# Altium schematic symbol library ECSlib.SchLib: 42 symbols
Pins are listed as number, name and electrical type; pins without a type are passive.

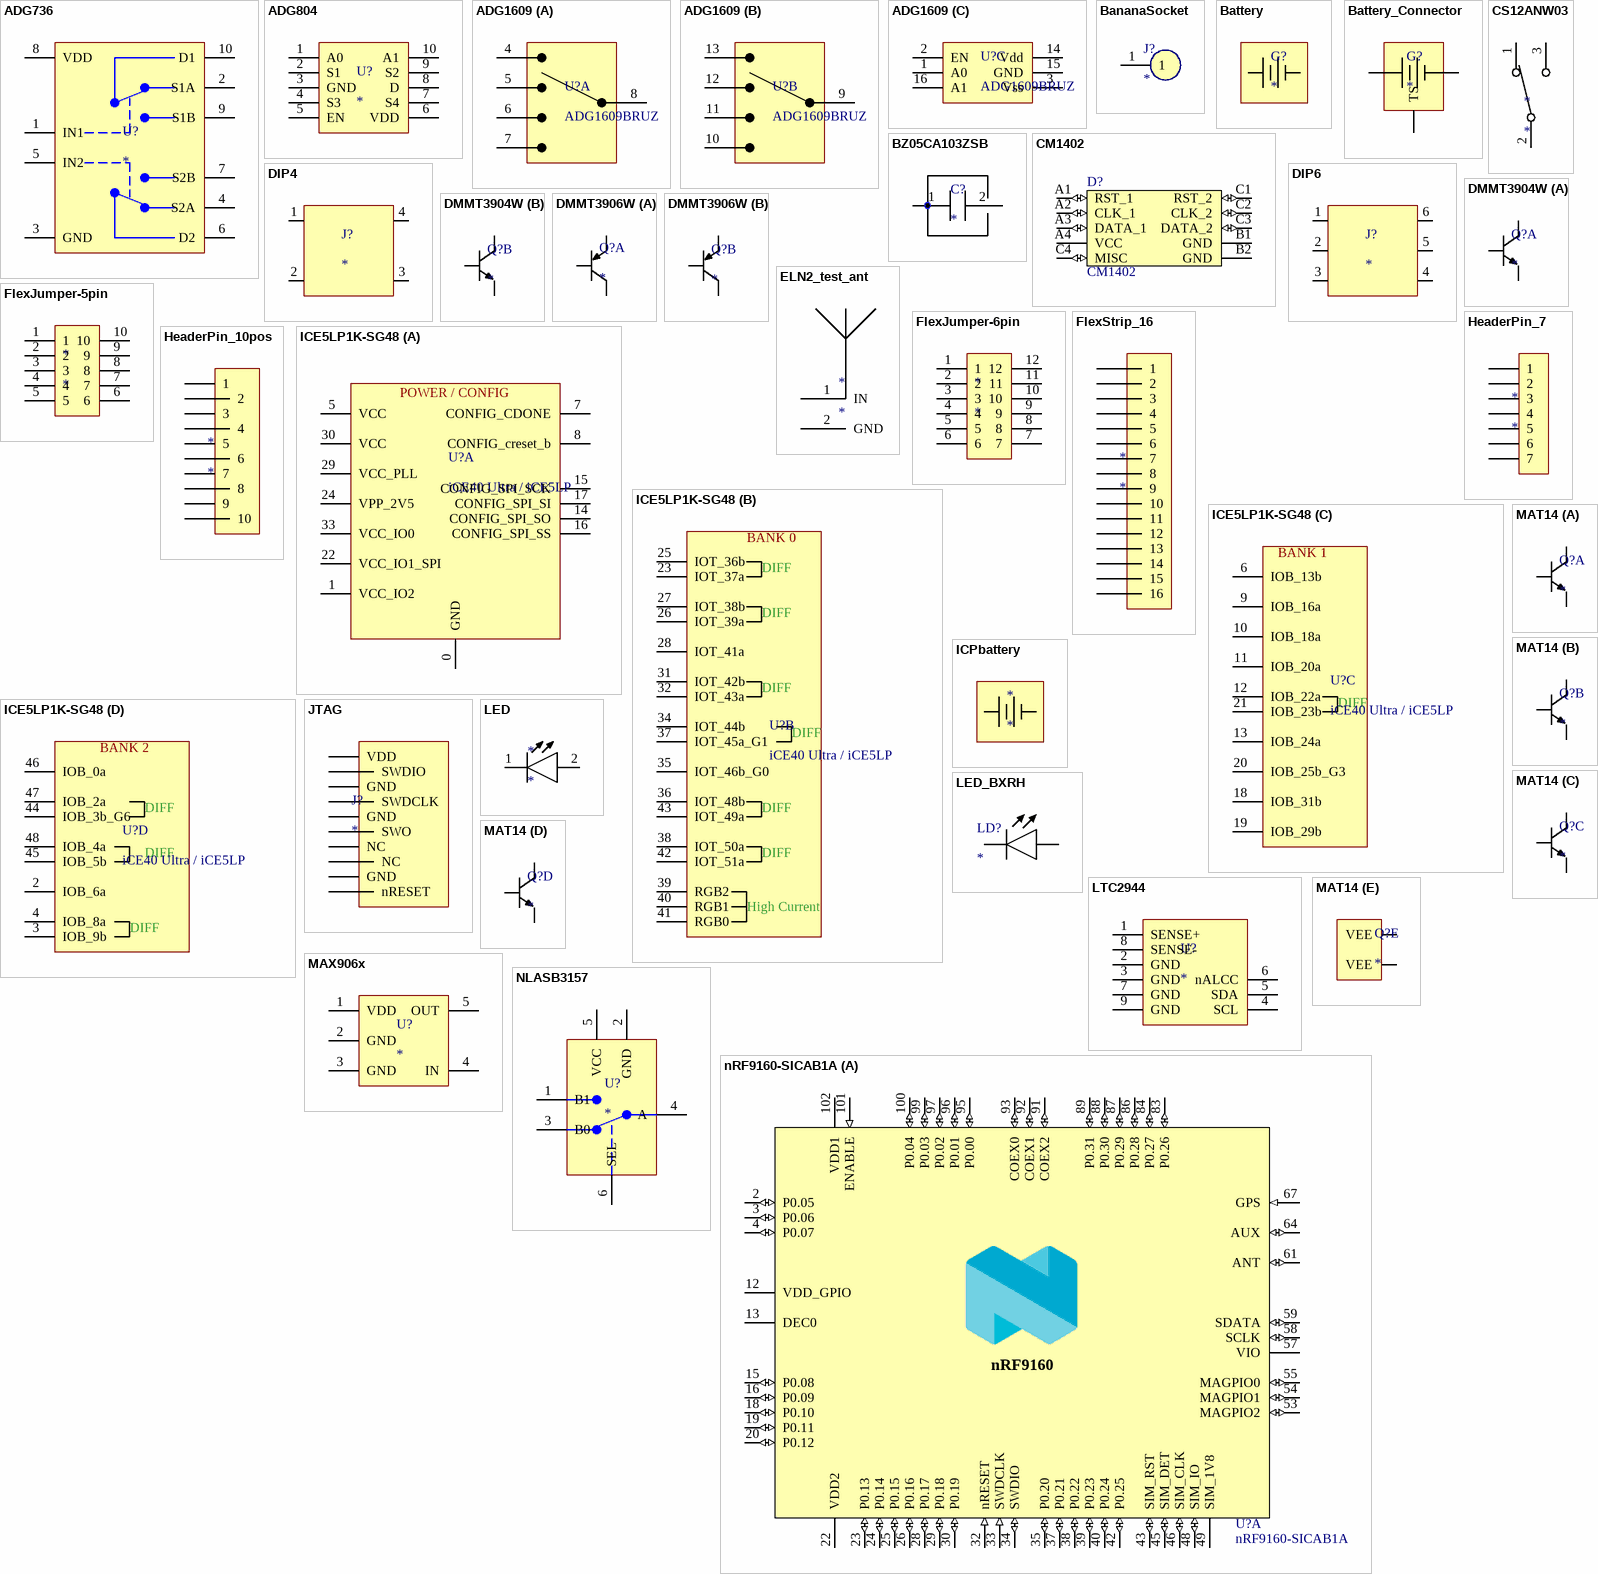
[diagram p0: symbols ADG736 to nRF9160-SICAB1A]

## ADG736
designator U?
footprint TSSOP50P490X110-10N (TSSOP, 10-Leads, Body 3.00x3.00mm, Pitch 0.50mm, IPC Medium Density)
pins: 1 IN1, 2 S1A, 3 GND, 4 S2A, 5 IN2, 6 D2, 7 S2B, 8 VDD, 9 S1B, 10 D1

## ADG804
designator U?
footprint TSSOP50P490X110-10N (TSSOP, 10-Leads, Body 3.00x3.00mm, Pitch 0.50mm, IPC Medium Density)
pins: 1 A0, 2 S1, 3 GND, 4 S3, 5 EN, 6 VDD, 7 S4, 8 D, 9 S2, 10 A1

## ADG1609
designator U?, comment ADG1609BRUZ
Value: ADG1609BRUZ
footprint TSOP65P640X120-16N (TSOP, 16-Leads, Body 5.00x4.40mm, Pitch 0.65mm, IPC Medium Density)
part A pins: 4 S1A, 5 S2A, 6 S3A, 7 S4A, 8 DA
part B pins: 9 DB, 10 S4B, 11 S3B, 12 S2B, 13 S1B
part C pins: 1 A0, 2 EN, 3 Vss, 14 Vdd, 15 GND, 16 A1

## BananaSocket
designator J?
footprint BananaSocket_black
footprint BananaSocket_blue
footprint BananaSocket_red
pins: 1

## Battery
designator G?
ICP622540PMT
footprint Battery_ICP543759PMT
footprint Battery_ICP622540PMT
footprint Battery_ICP622540PMT_v2 (550mAh)

## Battery_Connector
designator G?
footprint BatteryConnector (Plug connector SMD)
pins: 1 V+, 2 TS, 3 V-

## BZ05CA103ZSB
designator C?
Value: *
footprint BZ05CA103ZSB
pins: 1, 2

## CM1402
designator D?
EMI Network Filter Arrays SIM CARD EMI FILTER WITH ESD PROTECTION; Manufacturer: ON Semiconductor; Manufacturer Part Number: CM1402-03CP; Part number IPS: 00000009949; Note: N.A.; Pad Count: 10; Part Number: CM1402; Footprint Doc: CM1402; LatestRevisionDate: 2017-02-06; Published: 2017-02-06; Value: CM1402; Artikkelnr Noca: N.A.; ComponentLink1URL: N.A.; ComponentLink1Description: Datasheet; ComponentLink2URL: N.A.; ComponentLink2Description: Supplier link; HelpURL: http://www.onsemi.com/pub_link/Collateral/CM1402-D.PDF; Supplier 1: Digi-Key; Supplier Part Number 1: CM1402-03CPOSTR-ND; Supplier 2: Mouser; Supplier Part Number 2: 748-CM1402-03CP; PartId: 101300139; Component Class: Semiconductors
footprint CM1402
pins: A1 RST_1 (io), A2 CLK_1 (io), A3 DATA_1 (io), A4 VCC (power), B1 GND (power), B2 GND (power), C1 RST_2 (io), C2 CLK_2 (io), C3 DATA_2 (io), C4 MISC (io)

## CS12ANW03
designator *
footprint CS12ANW03
pins: 1, 2, 3

## DIP4
designator J?
110-87-304-41-001101; Value: *
footprint DIP4
pins: 1, 2, 3, 4

## DIP6
designator J?
110-47-306-41-001000; Value: *
footprint DIP6
pins: 1, 2, 3, 4, 5, 6

## DMMT3904W
designator Q?
footprint SOT65P210X100-6N (SOT23, 6-Leads, Body 2.00x2.10mm, Pitch 0.65mm, IPC Medium Density)
part A pins: 2 B1, 3 C1, 4 E1
part B pins: 1 B2, 5 E2, 6 C2

## DMMT3906W
designator Q?
footprint SOT65P210X100-6N (SOT23, 6-Leads, Body 2.00x2.10mm, Pitch 0.65mm, IPC Medium Density)
part A pins: 2 B1, 3 C1, 4 E1
part B pins: 1 B2, 5 E2, 6 C2

## ELN2_test_ant
designator *  (net tie, no BOM)
footprint ELN2_test_ant
pins: 1 IN, 2 GND

## FlexJumper-5pin
designator *
footprint FlexJumper-5pin-13mm
pins: 1, 2, 3, 4, 5, 6, 7, 8, 9, 10

## FlexJumper-6pin
designator *
footprint FlexJumper-6pin-25mm
pins: 1, 2, 3, 4, 5, 6, 7, 8, 9, 10, 11, 12

## FlexStrip_16
designator *
footprint Flex-strip-16
pins: 1, 2, 3, 4, 5, 6, 7, 8, 9, 10, 11, 12, 13, 14, 15, 16

## HeaderPin_7
designator *
footprint Header-7pin-1.27mm
pins: 1, 2, 3, 4, 5, 6, 7

## HeaderPin_10pos
designator *
footprint CLP-105-02-F-D-TR
footprint FW-05-03-L-D-225-065
pins: 1, 2, 3, 4, 5, 6, 7, 8, 9, 10

## ICE5LP1K-SG48
designator U?, comment iCE40 Ultra / iCE5LP
footprint QFN50P700X700X100_HS-49N (QFN, 48-Leads, Body 7.00x7.00mm, Pitch 0.50mm, Thermal Pad 5.35x5.35mm, IPC Medium Density)
part A pins: 0 GND, 1 VCC_IO2, 5 VCC, 7 CONFIG_CDONE, 8 CONFIG_creset_b, 14 CONFIG_SPI_SO, 15 CONFIG_SPI_SCK, 16 CONFIG_SPI_SS, 17 CONFIG_SPI_SI, 22 VCC_IO1_SPI, 24 VPP_2V5, 29 VCC_PLL, 30 VCC, 33 VCC_IO0
part B pins: 23 IOT_37a, 25 IOT_36b, 26 IOT_39a, 27 IOT_38b, 28 IOT_41a, 31 IOT_42b, 32 IOT_43a, 34 IOT_44b, 35 IOT_46b_G0, 36 IOT_48b, 37 IOT_45a_G1, 38 IOT_50a, 39 RGB2, 40 RGB1, 41 RGB0, 42 IOT_51a, 43 IOT_49a
part C pins: 6 IOB_13b, 9 IOB_16a, 10 IOB_18a, 11 IOB_20a, 12 IOB_22a, 13 IOB_24a, 18 IOB_31b, 19 IOB_29b, 20 IOB_25b_G3, 21 IOB_23b
part D pins: 2 IOB_6a, 3 IOB_9b, 4 IOB_8a, 44 IOB_3b_G6, 45 IOB_5b, 46 IOB_0a, 47 IOB_2a, 48 IOB_4a
part A text: POWER / CONFIG
part B text: BANK 0; DIFF; High Current
part C text: BANK 1; DIFF
part D text: BANK 2; DIFF

## ICPbattery
designator *
footprint ICP582930PR-01

## JTAG
designator J?
JTAG 10-pin, 1.27 mm, (SHF-105-01-L-D-TH); Value: *
footprint SHF-105-01-L-D-TH
footprint TC2050-IDC-NL
footprint TC2050-IDC
footprint TC2050-IDC-TH
footprint TC2050-IDC-NL-TH
footprint FTSH-105-01-F-DV-K-TR
footprint FlatCable_2x5_2.54
pins: 1 VDD, 2 SWDIO, 3 GND, 4 SWDCLK, 5 GND, 6 SWO, 7 NC, 8 NC, 9 GND, 10 nRESET

## LED
designator *
footprint LED VISHAY VSMY2940RG (High Speed Infrared Emitting Diodes)
pins: 1 K, 2 A

## LED_BXRH
designator LD?
footprint LED_BXRH
pins: n C, p A

## LTC2944
designator U?
footprint SON50P300X75_HS-9N (SON, 8-Leads, Body 3.00x3.00mm, Pitch 0.50mm, Thermal Pad 2.38x1.58mm, IPC Medium Density)
pins: 1 SENSE+, 2 GND, 3 GND, 4 SCL, 5 SDA, 6 nALCC, 7 GND, 8 SENSE-, 9 GND

## MAT14
designator Q?
footprint SOIC127P600X175-14N (SOIC, 14-Leads, Body 8.65x3.90mm, Pitch 1.27mm, IPC Medium Density)
footprint WithHeaders_SOIC127P600X175-14N (SOIC, 14-Leads, Body 8.65x3.90mm, Pitch 1.27mm, IPC Medium Density)
part A pins: 1 C1, 2 B1, 3 E1
part B pins: 5 E2, 6 B2, 7 C2
part C pins: 8 C3, 9 B3, 10 E3
part D pins: 12 E4, 13 B4, 14 C4
part E pins: 4 VEE, 11 VEE

## MAX906x
designator U?
footprint SOT95P280X145-5N (SOT23, 5-Leads, Body 2.90x2.80mm, Pitch 0.95mm, IPC Medium Density)
pins: 1 VDD, 2 GND, 3 GND, 4 IN, 5 OUT

## NLASB3157
designator U?
footprint TSOP65P210X110-6N (TSOP, 6-Leads, Body 2.00x1.25mm, Pitch 0.65mm, IPC Medium Density)
pins: 1 B1, 2 GND, 3 B0, 4 A, 5 VCC, 6 SEL

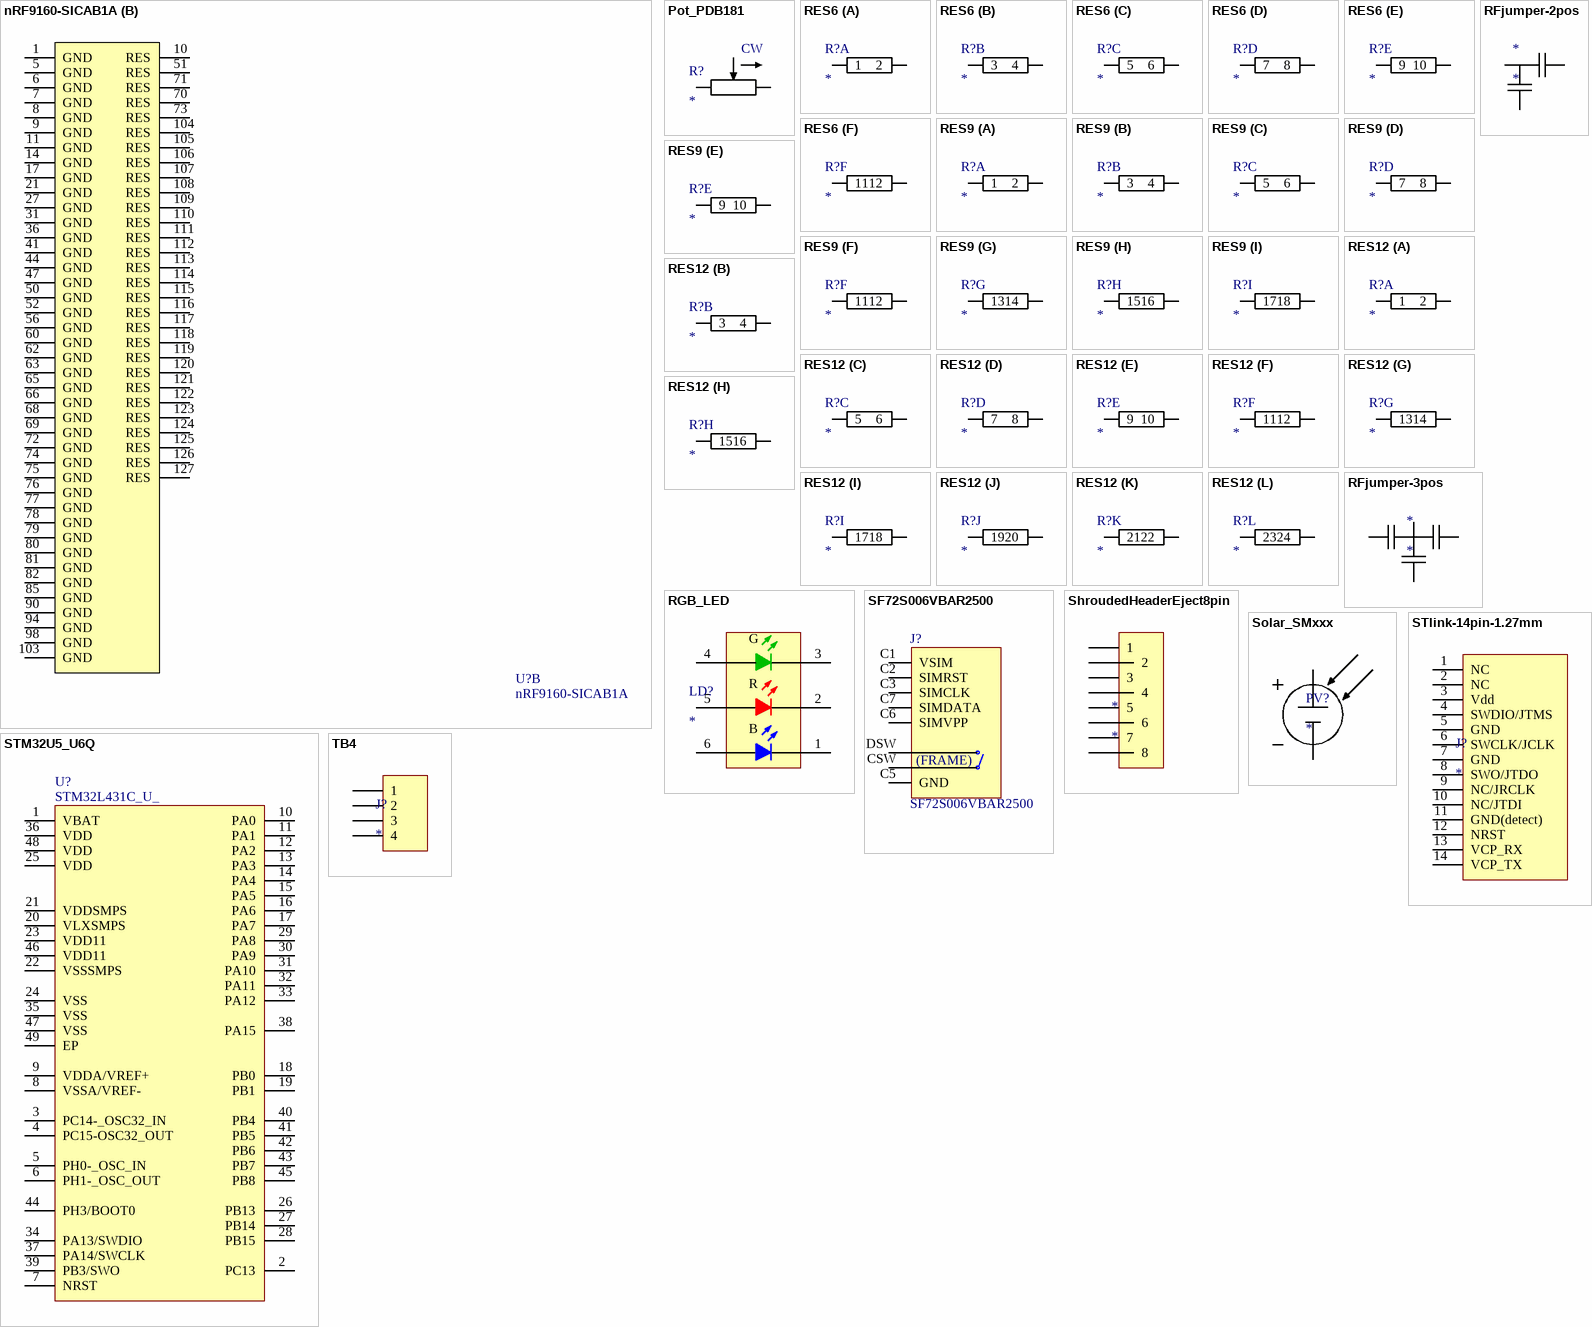
[diagram p1: symbols nRF9160-SICAB1A to TB4]

## nRF9160-SICAB1A
designator U?
Low power System-in-Package with integrated LTE-M/NB-IoT modem and GPS; Manufacturer: Nordic Semiconductor; Part number IPS: 80000002329; Note: N.A.; Pad Count: 161; Part Number: nRF9160-SICAB1A; Manufacturer Part Number: nRF9160-SICAB1A; Footprint Doc: LGA-161; Value: nRF9160-SICAB1A; ComponentLink1URL: N.A.; ComponentLink1Description: Datasheet; ComponentLink2URL: N.A.; ComponentLink2Description: Supplier link; HelpURL: N.A.; LatestRevisionDate: 2020-08-13; Published: 2020-08-13; Supplier 1: Nordic Semiconductor; Supplier Part Number 1: nRF9160-SICAB1A; Supplier 2: N.A.; Supplier Part Number 2: N.A.; Artikkelnr Noca: N.A.; PartId: 102000165; Component Class: nRF_Devices
footprint LGA50P1600X1050X104-161N
part A pins: 2 P0.05 (io), 3 P0.06 (io), 4 P0.07 (io), 12 VDD_GPIO (power), 13 DEC0 (power), 15 P0.08 (io), 16 P0.09 (io), 18 P0.10 (io), 19 P0.11 (io), 20 P0.12 (io), 22 VDD2 (power), 23 P0.13 (io), 24 P0.14 (io), 25 P0.15 (io), 26 P0.16 (io), 28 P0.17 (io), 29 P0.18 (io), 30 P0.19 (io), 32 nRESET (in), 33 SWDCLK (in), 34 SWDIO (io), 35 P0.20 (io), 37 P0.21 (io), 38 P0.22 (io), 39 P0.23 (io), 40 P0.24 (io), 42 P0.25 (io), 43 SIM_RST (io), 45 SIM_DET (io), 46 SIM_CLK (io), 48 SIM_IO (io), 49 SIM_1V8 (power), 53 MAGPIO2 (io), 54 MAGPIO1 (io), 55 MAGPIO0 (io), 57 VIO (power), 58 SCLK (io), 59 SDATA (io), 61 ANT (io), 64 AUX (io), 67 GPS (in), 83 P0.26 (io), 84 P0.27 (io), 86 P0.28 (io), 87 P0.29 (io), 88 P0.30 (io), 89 P0.31 (io), 91 COEX2 (io), 92 COEX1 (io), 93 COEX0 (io), 95 P0.00 (io), 96 P0.01 (io), 97 P0.02 (io), 99 P0.03 (io), 100 P0.04 (io), 101 ENABLE (in), 102 VDD1 (power)
part B pins: 1 GND (power), 5 GND (power), 6 GND, 7 GND, 8 GND, 9 GND (power), 10 RES, 11 GND, 14 GND (power), 17 GND (power), 21 GND (power), 27 GND (power), 31 GND (power), 36 GND (power), 41 GND (power), 44 GND (power), 47 GND (power), 50 GND (power), 51 RES, 52 GND (power), 56 GND (power), 60 GND (power), 62 GND (power), 63 GND (power), 65 GND (power), 66 GND (power), 68 GND, 69 GND, 70 RES, 71 RES, 72 GND (power), 73 RES, 74 GND (power), 75 GND (power), 76 GND (power), 77 GND (power), 78 GND (power), 79 GND (power), 80 GND (power), 81 GND (power), 82 GND (power), 85 GND (power), 90 GND (power), 94 GND (power), 98 GND (power), 103 GND (power), 104 RES, 105 RES, 106 RES, 107 RES, 108 RES, 109 RES, 110 RES, 111 RES, 112 RES, 113 RES, 114 RES, 115 RES, 116 RES, 117 RES, 118 RES, 119 RES, 120 RES, 121 RES, 122 RES, 123 RES, 124 RES, 125 RES, 126 RES, 127 RES
part A text: nRF9160

## Pot_PDB181
designator R?
footprint Pot_PDB181
pins: 1, 2 WIPER, 3
text: CW

## RES6
designator R?
footprint RESx6
part A pins: 1, 2
part B pins: 3, 4
part C pins: 5, 6
part D pins: 7, 8
part E pins: 9, 10
part F pins: 11, 12

## RES9
designator R?
footprint RESx9
part A pins: 1, 2
part B pins: 3, 4
part C pins: 5, 6
part D pins: 7, 8
part E pins: 9, 10
part F pins: 11, 12
part G pins: 13, 14
part H pins: 15, 16
part I pins: 17, 18

## RES12
designator R?
footprint RESx12
part A pins: 1, 2
part B pins: 3, 4
part C pins: 5, 6
part D pins: 7, 8
part E pins: 9, 10
part F pins: 11, 12
part G pins: 13, 14
part H pins: 15, 16
part I pins: 17, 18
part J pins: 19, 20
part K pins: 21, 22
part L pins: 23, 24

## RFjumper-2pos
designator *
footprint RFjumper-2pos
pins: 1, 2, 3

## RFjumper-3pos
designator *
footprint RFjumper-3pos
pins: 0, 1, 2, 3

## RGB_LED
designator LD?
footprint PLCC-160P500X600-6 (PLCC LED, 6-Leads, Body 5.00x5.00mm, Pitch 1.60mm, IPC Medium Density)
pins: 1 A, 2 B, 3 G, 4 R, 5, 6

## SF72S006VBAR2500
designator J?
n 8 (6 + 2) Position Card Connector NANO SIM Surface Mount, Right Angle Gold; Manufacturer: JAE Electronics; Part number IPS: 00000009956; Note: N.A.; Pad Count: 8; Part Number: SF72S006VBAR2500; Manufacturer Part Number: SF72S006VBAR2500; Footprint Doc: SF72S006VBAR2500; LatestRevisionDate: 2016-09-09; Published: 2016-09-09; Value: SF72S006VBAR2500; Artikkelnr Noca: N.A.; ComponentLink1URL: N.A.; ComponentLink1Description: Datasheet; ComponentLink2URL: N.A.; ComponentLink2Description: Supplier link; HelpURL: http://jae-connectors.com/en/pdf/MB-0282-1E_SF72.pdf; Supplier 1: Digi-Key; Supplier Part Number 1: 670-2799-1-ND; Supplier 2: Mouser; Supplier Part Number 2: 656-SF72S006VBAR2500; PartId: 100500572; Component Class: Connectors
footprint SF72S006VBAR2500
pins: 0 GND hidden to GND, C1 VSIM, C2 SIMRST, C3 SIMCLK, C5 GND, C6 SIMVPP, C7 SIMDATA, CSW, DSW
text: (FRAME)

## ShroudedHeaderEject8pin
designator *
footprint ShroudedHeaderEject8pin
pins: 1, 2, 3, 4, 5, 6, 7, 8

## Solar_SMxxx
designator PV?
Value: *
footprint Solar_SM141K08LV
footprint SOLAR_SM531K08TF (Solar Panel 89mmx52mm)
footprint SOLAR_SM401K08L (Solar Panel 89mmx52mm)
footprint Solar_SM141K04L (Solar Panel 29mmx23mm)
pins: 1 +, 2 -

## STlink-14pin-1.27mm
designator J?
footprint FTSH-107-01-S-D-K
footprint SHF-107-01-X-X-TH
pins: 1 NC, 2 NC, 3 Vdd, 4 SWDIO/JTMS, 5 GND, 6 SWCLK/JCLK, 7 GND, 8 SWO/JTDO, 9 NC/JRCLK, 10 NC/JTDI, 11 GND(detect), 12 NRST, 13 VCP_RX, 14 VCP_TX

## STM32U5_U6Q
designator U?, comment STM32L431C_U_
Ultra-low-power Arm® Cortex®-M4 32-bit MCU+FPU; Value: STM32L431C_U_
footprint QFN48 P0.5 T5.5X5.5 C7.0X7.0 H1.0 (QFN, 48-Leads, Body 7x7mm, Pitch 0.5mm, Thermal Pad 5.5x5.5mm, IPC High Density)
pins: 1 VBAT, 2 PC13, 3 PC14-_OSC32_IN, 4 PC15-OSC32_OUT, 5 PH0-_OSC_IN, 6 PH1-_OSC_OUT, 7 NRST, 8 VSSA/VREF-, 9 VDDA/VREF+, 10 PA0, 11 PA1, 12 PA2, 13 PA3, 14 PA4, 15 PA5, 16 PA6, 17 PA7, 18 PB0, 19 PB1, 20 VLXSMPS, 21 VDDSMPS, 22 VSSSMPS, 23 VDD11, 24 VSS, 25 VDD, 26 PB13, 27 PB14, 28 PB15, 29 PA8, 30 PA9, 31 PA10, 32 PA11, 33 PA12, 34 PA13/SWDIO, 35 VSS, 36 VDD, 37 PA14/SWCLK, 38 PA15, 39 PB3/SWO, 40 PB4, 41 PB5, 42 PB6, 43 PB7, 44 PH3/BOOT0, 45 PB8, 46 VDD11, 47 VSS, 48 VDD, 49 EP

## TB4
designator J?
Breadboard Tie point x4
footprint QuadTiePoint_TB4 (Solderless breadboard tiepoint)
pins: 1, 2, 3, 4